# EAGLE library part KCD-A914 (library glasses)
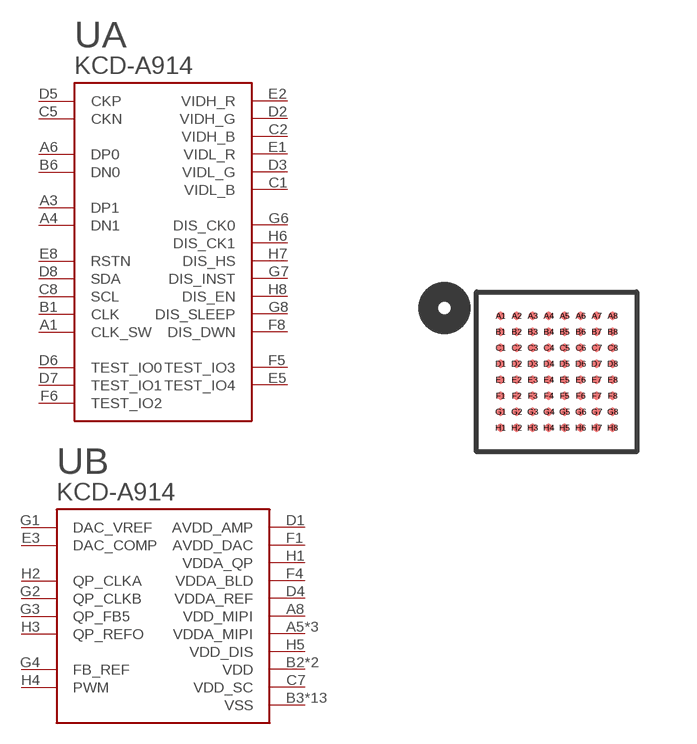
[diagram p11: symbol with the pads of 4X4MM_64FBGA; footprint 4X4MM_64FBGA]

Designator prefix U; gates A=KCD-A914 B=KCD-A914-B

## KCD-A914  [4X4MM_64FBGA]
A1  A:CLK_SW
A3  A:DP1
A4  A:DN1
A5  B:VDDA_MIPI
A6  A:DP0
A7  B:VDDA_MIPI
A8  B:VDD_MIPI
B1  A:CLK
B2  B:VDD
B3  B:VSS
B4  B:VSS
B5  B:VSS
B6  A:DN0
B7  B:VSS
B8  B:VSS
C1  A:VIDL_B
C2  A:VIDH_B
C3  B:VSS
C4  B:VDDA_MIPI
C5  A:CKN
C6  B:VSS
C7  B:VDD_SC
C8  A:SCL
D1  B:AVDD_AMP
D2  A:VIDH_G
D3  A:VIDL_G
D4  B:VDDA_REF
D5  A:CKP
D6  A:TEST_IO0
D7  A:TEST_IO1
D8  A:SDA
E1  A:VIDL_R
E2  A:VIDH_R
E3  B:DAC_COMP
E4  B:VSS
E5  A:TEST_IO4
E6  B:VSS
E7  B:VDD
E8  A:RSTN
F1  B:AVDD_DAC
F2  B:VSS
F3  B:VSS
F4  B:VDDA_BLD
F5  A:TEST_IO3
F6  A:TEST_IO2
F7  B:VSS
F8  A:DIS_DWN
G1  B:DAC_VREF
G2  B:QP_CLKB
G3  B:QP_FB5
G4  B:FB_REF
G5  B:VSS
G6  A:DIS_CK0
G7  A:DIS_INST
G8  A:DIS_SLEEP
H1  B:VDDA_QP
H2  B:QP_CLKA
H3  B:QP_REFO
H4  B:PWM
H5  B:VDD_DIS
H6  A:DIS_CK1
H7  A:DIS_HS
H8  A:DIS_EN

## Footprint 4X4MM_64FBGA (pad centres in mm)
smd 0.2 x 0.2: A1 -1.4,1.4; A2 -1,1.4; A3 -0.6,1.4; A4 -0.2,1.4; A5 0.2,1.4; A6 0.6,1.4; A7 1,1.4; A8 1.4,1.4; B1 -1.4,1; B2 -1,1; B3 -0.6,1; B4 -0.2,1; B5 0.2,1; B6 0.6,1; B7 1,1; B8 1.4,1; C1 -1.4,0.6; C2 -1,0.6; C3 -0.6,0.6; C4 -0.2,0.6; C5 0.2,0.6; C6 0.6,0.6; C7 1,0.6; C8 1.4,0.6; D1 -1.4,0.2; D2 -1,0.2; D3 -0.6,0.2; D4 -0.2,0.2; D5 0.2,0.2; D6 0.6,0.2; D7 1,0.2; D8 1.4,0.2; E1 -1.4,-0.2; E2 -1,-0.2; E3 -0.6,-0.2; E4 -0.2,-0.2; E5 0.2,-0.2; E6 0.6,-0.2; E7 1,-0.2; E8 1.4,-0.2; F1 -1.4,-0.6; F2 -1,-0.6; F3 -0.6,-0.6; F4 -0.2,-0.6; F5 0.2,-0.6; F6 0.6,-0.6; F7 1,-0.6; F8 1.4,-0.6; G1 -1.4,-1; G2 -1,-1; G3 -0.6,-1; G4 -0.2,-1; G5 0.2,-1; G6 0.6,-1; G7 1,-1; G8 1.4,-1; H1 -1.4,-1.4; H2 -1,-1.4; H3 -0.6,-1.4; H4 -0.2,-1.4; H5 0.2,-1.4; H6 0.6,-1.4; H7 1,-1.4; H8 1.4,-1.4